# EAGLE library part RP4 (library KwanSystems)
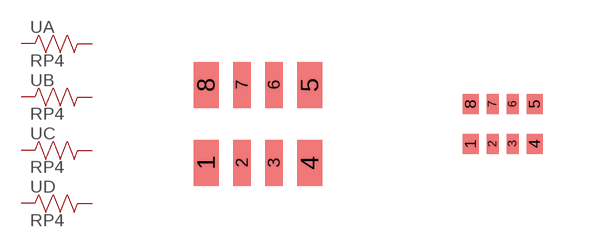
[diagram p5: symbol with the pads of CRA06; footprints CRA06, CRA04]

Designator prefix -; gates A=RESISTOR B=RESISTOR C=RESISTOR D=RESISTOR

## RP406  [CRA06]
1  A:1  pas
2  B:1  pas
3  C:1  pas
4  D:1  pas
5  D:2  pas
6  C:2  pas
7  B:2  pas
8  A:2  pas

## RP404  [CRA04]
Pads as for CRA06

## Footprint CRA06 (pad centres in mm)
smd 0.63 x 1.15: 1 -1.295,-0.975; 4 1.295,-0.975; 5 1.295,0.975; 8 -1.295,0.975
smd 0.44 x 1.15: 2 -0.4,-0.975; 3 0.4,-0.975; 6 0.4,0.975; 7 -0.4,0.975

## Footprint CRA04 (pad centres in mm)
smd 0.4 x 0.5: 1 -0.8,-0.5; 4 0.8,-0.5; 5 0.8,0.5; 8 -0.8,0.5
smd 0.3 x 0.5: 2 -0.25,-0.5; 3 0.25,-0.5; 6 0.25,0.5; 7 -0.25,0.5